# Altium footprint library PCB-PartsFootprint.PcbLib: 32 footprints (part 2 of 2)
Each footprint in its own frame and in the unit in brackets; x right, y up, seen from the top. Pads: shape width x height; smd on the part's side, far side on the other; paste and mask are expansions set on the pad; w line width, h text height; cw(c..) or ccw(c..) is an arc to the next point about the centre after c.
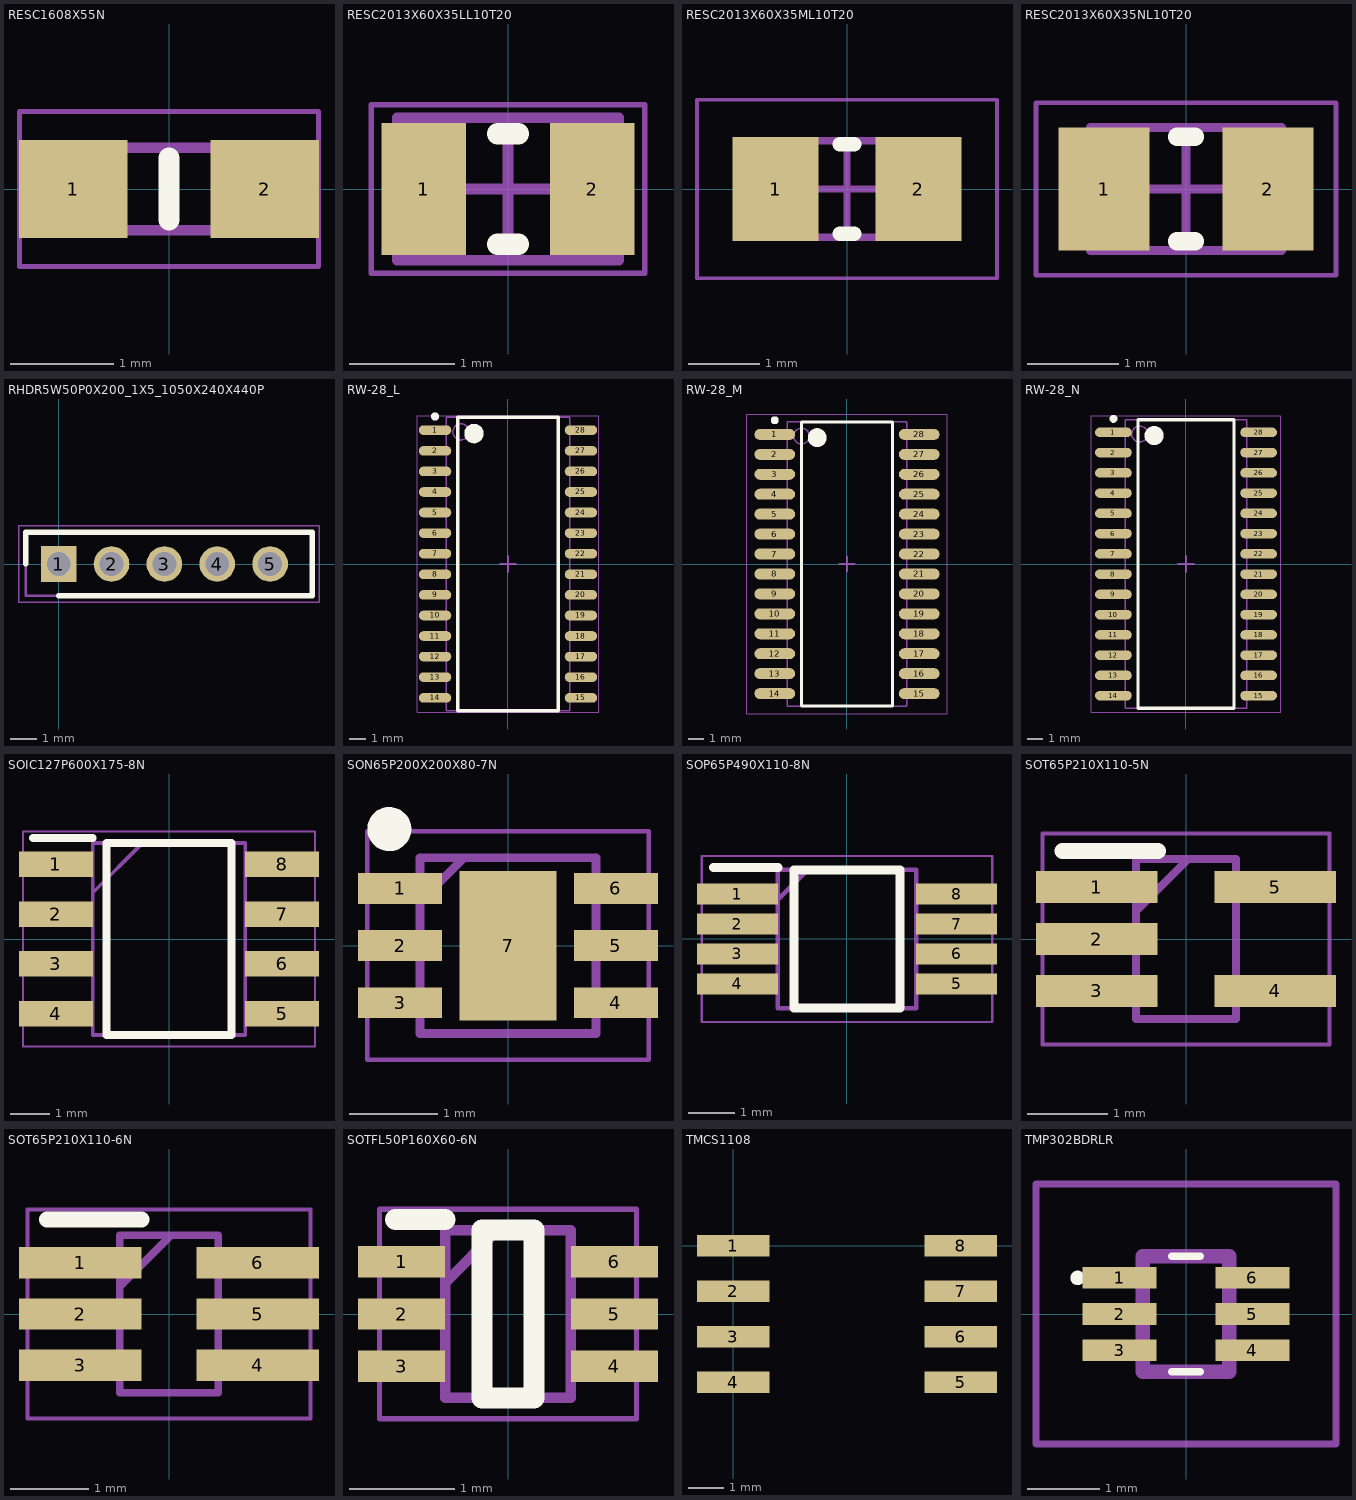
[diagram p1: the footprints below, top view; thin cyan lines are the x and y axes]

## RESC1608X55N [mm]
pads (2):
  rect 1.054x0.95 smd: 1(-0.927,0) 2(0.927,0)
Top Overlay:
  lines w0.2: 0,-0.3 0,0.3
Top Courtyard:
  lines w0.1: -0.8,-0.4 0.8,-0.4 0.8,0.4 -0.8,0.4 -0.8,-0.4
Bottom Assembly:
  lines w0.05: -1.45,-0.75 1.45,-0.75 1.45,0.75 -1.45,0.75 -1.45,-0.75

## RESC2013X60X35LL10T20 [mm] "Chip Resistor, 2-Leads, Body 2.1x1.35mm, IPC High Density"
height 0.6
pads (2):
  rect 0.8x1.25 smd: 1(-0.8,0) 2(0.8,0)
Top Overlay:
  lines w0.2: -0.1,-0.525 0.1,-0.525 ; -0.1,0.525 0.1,0.525
Top 3D Body:
  lines w0.1: -1.05,-0.675 1.05,-0.675 1.05,0.675 -1.05,0.675 -1.05,-0.675
Top Courtyard:
  lines w0.05: -1.3,-0.8 1.3,-0.8 1.3,0.8 -1.3,0.8 -1.3,-0.8
  lines w0.1: -0.5,0 0.5,0 ; 0,-0.5 0,0.5
3D body "RESC2012X06N.step": height 0.6, standoff 0, extent -1.05,-0.675 1.05,0.675

## RESC2013X60X35ML10T20 [mm] "Chip Resistor, 2-Leads, Body 2.1x1.35mm, IPC Low Density"
height 0.6
pads (2):
  rect 1.2x1.45 smd: 1(-1,0) 2(1,0)
Top Overlay:
  lines w0.2: -0.1,-0.625 0.1,-0.625 ; -0.1,0.625 0.1,0.625
Top 3D Body:
  lines w0.1: -1.05,-0.675 -1.05,0.675 1.05,0.675 1.05,-0.675 -1.05,-0.675
Top Courtyard:
  lines w0.05: -2.1,-1.25 -2.1,1.25 2.1,1.25 2.1,-1.25 -2.1,-1.25
  lines w0.1: -0.5,0 0.5,0 ; 0,-0.5 0,0.5
3D body "RESC2012X06N.step": height 0.6, standoff 0, extent -1.05,-0.675 1.05,0.675

## RESC2013X60X35NL10T20 [mm] "Chip Resistor, 2-Leads, Body 2.1x1.35mm, IPC Medium Density"
height 0.6
pads (2):
  rect 1x1.35 smd: 1(-0.9,0) 2(0.9,0)
Top Overlay:
  lines w0.2: -0.1,-0.575 0.1,-0.575 ; -0.1,0.575 0.1,0.575
Top 3D Body:
  lines w0.1: -1.05,-0.675 -1.05,0.675 1.05,0.675 1.05,-0.675 -1.05,-0.675
Top Courtyard:
  lines w0.05: -1.65,-0.95 -1.65,0.95 1.65,0.95 1.65,-0.95 -1.65,-0.95
  lines w0.1: -0.5,0 0.5,0 ; 0,-0.5 0,0.5
3D body "RESC2012X06N.step": height 0.6, standoff 0, extent -1.05,-0.675 1.05,0.675

## RHDR5W50P0X200_1X5_1050X240X440P [mm]
pads (5):
  rect 1.35x1.35 / inner round 1.35 / far side rect 1.35x1.35 hole 0.9: 1(0,0)
  round 1.35 hole 0.9: 2(2,0) 3(4,0) 4(6,0) 5(8,0)
Top Overlay:
  lines w0.2: -1.25,0 -1.25,1.2 9.6,1.2 9.6,-1.2 0,-1.2
Top Courtyard:
  lines w0.1: -1.25,-1.2 -1.25,1.2 9.6,1.2 9.6,-1.2 -1.25,-1.2
Bottom Assembly:
  lines w0.05: -1.5,-1.45 -1.5,1.45 9.85,1.45 9.85,-1.45 -1.5,-1.45
3D body "M22-7130542_TYC.step": height 4.39, standoff -4.41, extent -1.004,-1.003 9.004,1.003

## RW-28_L [mm] "SOIC, 28-Leads, Body 17.9x7.5mm, Pitch 1.27mm, IPC High Density"
height 2.65
pads (28):
  oval 2x0.6 smd: 1(-4.5,8.255) 2(-4.5,6.985) 3(-4.5,5.715) 4(-4.5,4.445) 5(-4.5,3.175) 6(-4.5,1.905) 7(-4.5,0.635) 8(-4.5,-0.635) 9(-4.5,-1.905) 10(-4.5,-3.175) 11(-4.5,-4.445) 12(-4.5,-5.715) 13(-4.5,-6.985) 14(-4.5,-8.255) 15(4.5,-8.255) 16(4.5,-6.985) 17(4.5,-5.715) 18(4.5,-4.445) 19(4.5,-3.175) 20(4.5,-1.905) 21(4.5,-0.635) 22(4.5,0.635) 23(4.5,1.905) 24(4.5,3.175) 25(4.5,4.445) 26(4.5,5.715) 27(4.5,6.985) 28(4.5,8.255)
Top Overlay:
  circle w0.6: c-2.1,8.05 r0.3
  circle w0.25: c-4.5,9.105 r0.125
  lines w0.2: -3.1,-9.05 3.1,-9.05 3.1,9.05 -3.1,9.05 -3.1,-9.05
Top 3D Body:
  circle w0.1: c-2.9,8.15 r0.5
  lines w0.1: -3.8,-9.05 3.8,-9.05 3.8,9.05 -3.8,9.05 -3.8,-9.05
Top Courtyard:
  lines w0.05: -5.6,-9.15 5.6,-9.15 5.6,9.15 -5.6,9.15 -5.6,-9.15
  lines w0.1: -0.5,0 0.5,0 ; 0,-0.5 0,0.5
3D body: height 2.65, standoff 0.1, extent -3.8,-9.05 3.8,9.05

## RW-28_M [mm] "SOIC, 28-Leads, Body 17.9x7.5mm, Pitch 1.27mm, IPC Low Density"
height 2.65
pads (28):
  oval 2.6x0.7 smd: 1(-4.6,8.255) 2(-4.6,6.985) 3(-4.6,5.715) 4(-4.6,4.445) 5(-4.6,3.175) 6(-4.6,1.905) 7(-4.6,0.635) 8(-4.6,-0.635) 9(-4.6,-1.905) 10(-4.6,-3.175) 11(-4.6,-4.445) 12(-4.6,-5.715) 13(-4.6,-6.985) 14(-4.6,-8.255) 15(4.6,-8.255) 16(4.6,-6.985) 17(4.6,-5.715) 18(4.6,-4.445) 19(4.6,-3.175) 20(4.6,-1.905) 21(4.6,-0.635) 22(4.6,0.635) 23(4.6,1.905) 24(4.6,3.175) 25(4.6,4.445) 26(4.6,5.715) 27(4.6,6.985) 28(4.6,8.255)
Top Overlay:
  circle w0.6: c-1.9,8.05 r0.3
  circle w0.25: c-4.6,9.155 r0.125
  lines w0.2: -2.9,-9.05 2.9,-9.05 2.9,9.05 -2.9,9.05 -2.9,-9.05
Top 3D Body:
  circle w0.1: c-2.9,8.15 r0.5
  lines w0.1: -3.8,-9.05 3.8,-9.05 3.8,9.05 -3.8,9.05 -3.8,-9.05
Top Courtyard:
  lines w0.05: -6.4,-9.55 6.4,-9.55 6.4,9.55 -6.4,9.55 -6.4,-9.55
  lines w0.1: -0.5,0 0.5,0 ; 0,-0.5 0,0.5
3D body: height 2.65, standoff 0.1, extent -3.8,-9.05 3.8,9.05

## RW-28_N [mm] "SOIC, 28-Leads, Body 17.9x7.5mm, Pitch 1.27mm, IPC Medium Density"
height 2.65
pads (28):
  oval 2.3x0.6 smd: 1(-4.55,8.255) 2(-4.55,6.985) 3(-4.55,5.715) 4(-4.55,4.445) 5(-4.55,3.175) 6(-4.55,1.905) 7(-4.55,0.635) 8(-4.55,-0.635) 9(-4.55,-1.905) 10(-4.55,-3.175) 11(-4.55,-4.445) 12(-4.55,-5.715) 13(-4.55,-6.985) 14(-4.55,-8.255) 15(4.55,-8.255) 16(4.55,-6.985) 17(4.55,-5.715) 18(4.55,-4.445) 19(4.55,-3.175) 20(4.55,-1.905) 21(4.55,-0.635) 22(4.55,0.635) 23(4.55,1.905) 24(4.55,3.175) 25(4.55,4.445) 26(4.55,5.715) 27(4.55,6.985) 28(4.55,8.255)
Top Overlay:
  circle w0.6: c-2,8.05 r0.3
  circle w0.25: c-4.55,9.105 r0.125
  lines w0.2: -3,-9.05 3,-9.05 3,9.05 -3,9.05 -3,-9.05
Top 3D Body:
  circle w0.1: c-2.9,8.15 r0.5
  lines w0.1: -3.8,-9.05 3.8,-9.05 3.8,9.05 -3.8,9.05 -3.8,-9.05
Top Courtyard:
  lines w0.05: -5.95,-9.3 5.95,-9.3 5.95,9.3 -5.95,9.3 -5.95,-9.3
  lines w0.1: -0.5,0 0.5,0 ; 0,-0.5 0,0.5
3D body: height 2.65, standoff 0.1, extent -3.8,-9.05 3.8,9.05

## SOIC127P600X175-8N [mm]
pads (8):
  rect 1.884x0.65 smd: 1(-2.889,1.905) 2(-2.889,0.635) 3(-2.889,-0.635) 4(-2.889,-1.905) 5(2.889,-1.905) 6(2.889,-0.635) 7(2.889,0.635) 8(2.889,1.905)
Top Overlay:
  lines w0.2: -3.475,2.58 -1.948,2.58 ; -1.598,-2.452 -1.598,2.452 1.598,2.452 1.598,-2.452 -1.598,-2.452
Top Courtyard:
  lines w0.1: -1.948,1.182 -0.678,2.452 ; -1.948,-2.452 -1.948,2.452 1.948,2.452 1.948,-2.452 -1.948,-2.452
Bottom Assembly:
  lines w0.05: -3.725,-2.75 -3.725,2.75 3.725,2.75 3.725,-2.75 -3.725,-2.75

## SON65P200X200X80-7N [mm]
pads (7):
  rect 0.956x0.35 smd: 1(-1.228,0.65) 2(-1.228,0) 3(-1.228,-0.65) 4(1.228,-0.65) 5(1.228,0) 6(1.228,0.65)
  rect 1.1x1.7 smd: 7(0,0)
Top Overlay:
  circle w0.25: c-1.35,1.325 r0.125
Top Courtyard:
  lines w0.1: -1,0.5 -0.5,1 ; -1,-1 1,-1 1,1 -1,1 -1,-1
Bottom Assembly:
  lines w0.05: -1.6,-1.3 1.6,-1.3 1.6,1.3 -1.6,1.3 -1.6,-1.3

## SOP65P490X110-8N [mm]
pads (8):
  rect 1.756x0.45 smd: 1(-2.378,0.975) 2(-2.378,0.325) 3(-2.378,-0.325) 4(-2.378,-0.975) 5(2.378,-0.975) 6(2.378,-0.325) 7(2.378,0.325) 8(2.378,0.975)
Top Overlay:
  lines w0.2: -2.9,1.55 -1.5,1.55 ; -1.15,-1.5 1.15,-1.5 1.15,1.5 -1.15,1.5 -1.15,-1.5
Top Courtyard:
  lines w0.1: -1.5,0.85 -0.85,1.5 ; -1.5,-1.5 1.5,-1.5 1.5,1.5 -1.5,1.5 -1.5,-1.5
Bottom Assembly:
  lines w0.05: -3.15,-1.8 3.15,-1.8 3.15,1.8 -3.15,1.8 -3.15,-1.8

## SOT65P210X110-5N [mil]
pads (5):
  rect 60x15.75 smd: 1(-44,25.59) 2(-44,0) 3(-44,-25.59) 4(44,-25.59) 5(44,25.59)
Top Overlay:
  lines w7.87: -61.02,43.31 -13.78,43.31
Top Courtyard:
  lines w3.94: -24.61,13.78 0.98,39.37 ; -24.61,-39.37 -24.61,39.37 24.61,39.37 24.61,-39.37 -24.61,-39.37
Bottom Assembly:
  lines w1.97: -70.87,-52.17 -70.87,52.17 70.87,52.17 70.87,-52.17 -70.87,-52.17

## SOT65P210X110-6N [mm]
pads (6):
  rect 1.556x0.4 smd: 1(-1.128,0.65) 2(-1.128,0) 3(-1.128,-0.65) 4(1.128,-0.65) 5(1.128,0) 6(1.128,0.65)
Top Overlay:
  lines w0.2: -1.55,1.2 -0.35,1.2
Top Courtyard:
  lines w0.1: -0.625,0.35 0.025,1 ; -0.625,-1 0.625,-1 0.625,1 -0.625,1 -0.625,-1
Bottom Assembly:
  lines w0.05: -1.8,-1.325 1.8,-1.325 1.8,1.325 -1.8,1.325 -1.8,-1.325

## SOTFL50P160X60-6N [mm]
pads (6):
  rect 0.831x0.3 smd: 1(-1.016,0.5) 2(-1.016,0) 3(-1.016,-0.5) 4(1.016,-0.5) 5(1.016,0) 6(1.016,0.5)
Top Overlay:
  lines w0.2: -1.075,0.9 -0.6,0.9 ; -0.25,-0.8 0.25,-0.8 0.25,0.8 -0.25,0.8 -0.25,-0.8
Top Courtyard:
  lines w0.1: -0.6,0.3 -0.1,0.8 ; -0.6,-0.8 0.6,-0.8 0.6,0.8 -0.6,0.8 -0.6,-0.8
Bottom Assembly:
  lines w0.05: -1.225,-1 1.225,-1 1.225,1 -1.225,1 -1.225,-1

## TMCS1108 [mil]
pads (8):
  rect 80x24 smd: 1(0,0) 2(0,-50) 3(0,-100) 4(0,-150) 5(250,-150) 6(250,-100) 7(250,-50) 8(250,0)
3D body "D0008A.stp": height 64, standoff 0, extent 6.44,-171.5 243.56,21.5

## TMP302BDRLR [mm]
pads (6):
  rect 1.026x0.3 smd: 1(-0.918,0.5) 2(-0.918,0) 3(-0.918,-0.5) 4(0.918,-0.5) 5(0.918,0) 6(0.918,0.5)
Top Overlay:
  lines w0.1: -0.2,-0.8 0.2,-0.8 ; -0.2,0.8 0.2,0.8 ; -1.5,0.45 ccw(c-1.5,0.5) -1.5,0.55 ccw(c-1.5,0.5) -1.5,0.45
Top Courtyard:
  lines w0.2: -0.6,-0.8 -0.6,0.8 0.6,0.8 0.6,-0.8 -0.6,-0.8
Bottom Assembly:
  lines w0.1: -2.075,-1.8 -2.075,1.8 2.075,1.8 2.075,-1.8 -2.075,-1.8